# Altium integrated library Analog Devices Switches and Multiplexers Digital Crosspoint Switches.IntLib: 20 symbols (part 3 of 4)
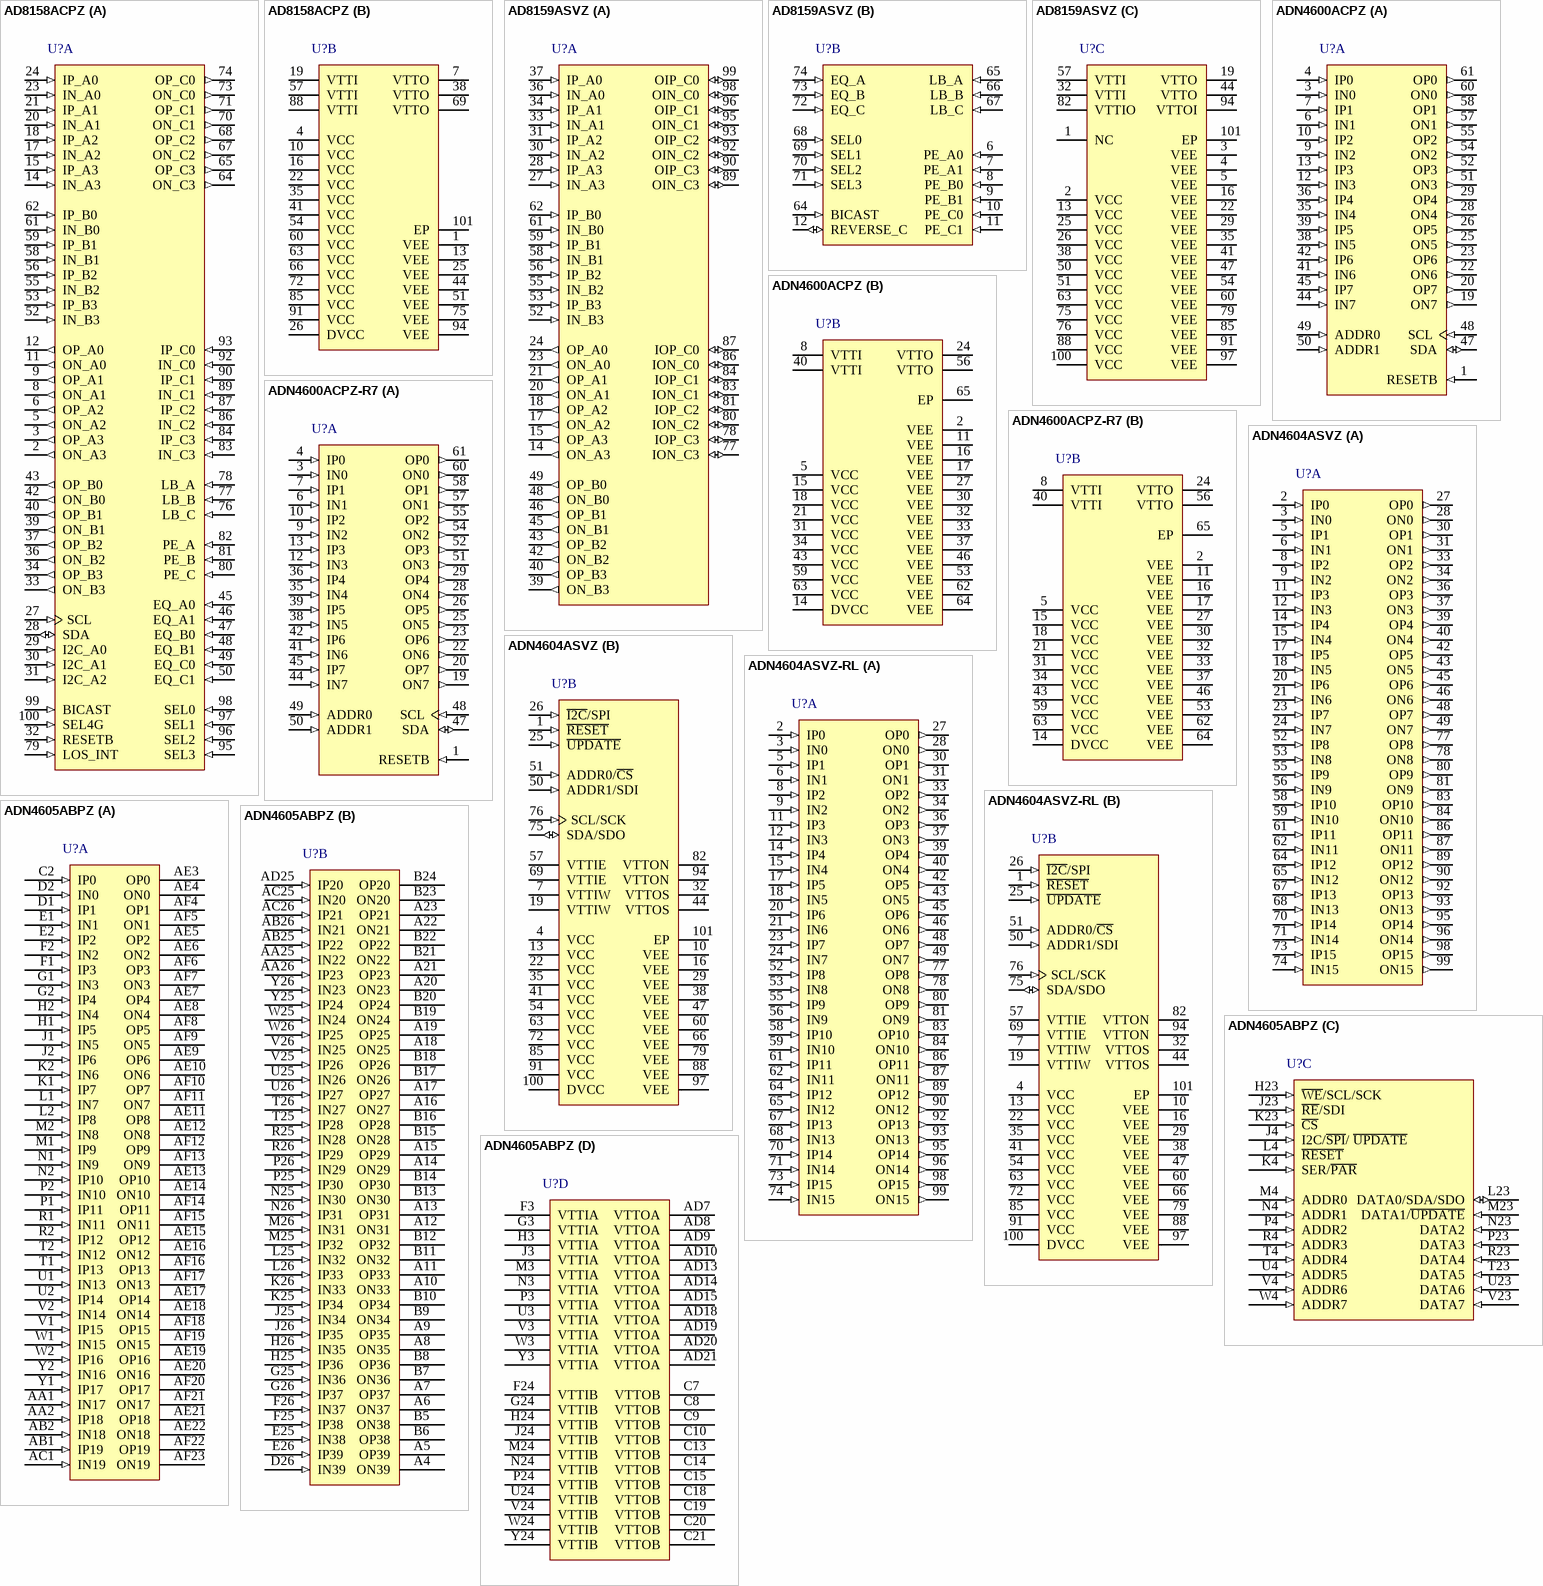
[diagram p6: symbols AD8158ACPZ to ADN4605ABPZ]

## AD8159ASVZ
designator U?
Xstream(TM) 3.2 Gbps Quad Buffer Mux / Demux, 600 ps Prop Delay, -40 to 85 degC, 100-pin QFP (SV-100-1), Tray; Manufacturer: Analog Devices; PartNumber: AD8159ASVZ; Control Interface: LVCMOS/LVTTL Parallel; Data Rate (Gbps): 3.2; Prop Delay: 600ps; Output Rise/Fall (ps): 100; Supply Current: 255mA; DatasheetVersion: Rev. B; PackageVersion: 040506-A, 04/2006; PackageReference: SV-100-1; PackageDescription: 100-Pin Thin Quad Flat Package, Body 14 x 14 mm, Pitch 0.5 mm; Supplier 1: Digi-Key; Supplier Part Number 1: AD8159ASVZ-ND; Supplier 2: Newark; Supplier Part Number 2: 59K6446; Supplier 3: Mouser; Supplier Part Number 3: 584-AD8159ASVZ; Packing: Tray; Mounting Technology: Surface Mount; Code_JEDEC: MS-026-AED-HD; ComponentLink1Description: Manufacturer URL; ComponentLink1URL: http://www.analog.com/en/index.html; ComponentLink2Description: Datasheet; ComponentLink2URL: http://www.analog.com/static/imported-files/data_sheets/AD8159.pdf; ComponentLink3Description: Package Specification; ComponentLink3URL: http://www.analog.com/static/imported-files/packages/PKG_PDF/TQFP_ED(SV)/SV_100_1.pdf
footprint ADI-SV-100-1_N (QFP, 100-Leads, Body 14x4mm, Pitch 0.5mm, Thermal Pad 6.5x6.5mm, IPC Medium Density)
footprint ADI-SV-100-1_L (QFP, 100-Leads, Body 14x4mm, Pitch 0.5mm, Thermal Pad 6.5x6.5mm, IPC High Density)
footprint ADI-SV-100-1_M (QFP, 100-Leads, Body 14x4mm, Pitch 0.5mm, Thermal Pad 6.5x6.5mm, IPC Low Density)
part A pins: 14 ON_A3 (out) "High Speed Output Complement", 15 OP_A3 (out) "High Speed Output", 17 ON_A2 (out) "High Speed Output Complement", 18 OP_A2 (out) "High Speed Output", 20 ON_A1 (out) "High Speed Output Complement", 21 OP_A1 (out) "High Speed Output", 23 ON_A0 (out) "High Speed Output Complement", 24 OP_A0 (out) "High Speed Output", 27 IN_A3 (in) "High Speed Input Complement", 28 IP_A3 (in) "High Speed Input", 30 IN_A2 (in) "High Speed Input Complement", 31 IP_A2 (in) "High Speed Input", 33 IN_A1 (in) "High Speed Input Complement", 34 IP_A1 (in) "High Speed Input", 36 IN_A0 (in) "High Speed Input Complement", 37 IP_A0 (in) "High Speed Input", 39 ON_B3 (out) "High Speed Output Complement", 40 OP_B3 (out) "High Speed Output", 42 ON_B2 (out) "High Speed Output Complement", 43 OP_B2 (out) "High Speed Output", 45 ON_B1 (out) "High Speed Output Complement", 46 OP_B1 (out) "High Speed Output", 48 ON_B0 (out) "High Speed Output Complement", 49 OP_B0 (out) "High Speed Output", 52 IN_B3 (in) "High Speed Input Complement", 53 IP_B3 (in) "High Speed Input", 55 IN_B2 (in) "High Speed Input Complement", 56 IP_B2 (in) "High Speed Input", 58 IN_B1 (in) "High Speed Input Complement", 59 IP_B1 (in) "High Speed Input", 61 IN_B0 (in) "High Speed Input Complement", 62 IP_B0 (in) "High Speed Input", 77 ION_C3 (io) "High Speed Input/Output Complement", 78 IOP_C3 (io) "High Speed Input/Output", 80 ION_C2 (io) "High Speed Input/Output Complement", 81 IOP_C2 (io) "High Speed Input/Output", 83 ION_C1 (io) "High Speed Input/Output Complement", 84 IOP_C1 (io) "High Speed Input/Output", 86 ION_C0 (io) "High Speed Input/Output Complement", 87 IOP_C0 (io) "High Speed Input/Output", 89 OIN_C3 (io) "High Speed Output/Input Complement", 90 OIP_C3 (io) "High Speed Output/Input", 92 OIN_C2 (io) "High Speed Output/Input Complement", 93 OIP_C2 (io) "High Speed Output/Input", 95 OIN_C1 (io) "High Speed Output/Input Complement", 96 OIP_C1 (io) "High Speed Output/Input", 98 OIN_C0 (io) "High Speed Output/Input Complement", 99 OIP_C0 (io) "High Speed Output/Input"
part B pins: 6 PE_A0 (in) "Pre-Emphasis Control for Port A (LSB)", 7 PE_A1 (in) "Pre-Emphasis Control for Port A (MSB)", 8 PE_B0 (in) "Pre-Emphasis Control for Port B (LSB)", 9 PE_B1 (in) "Pre-Emphasis Control for Port B (MSB)", 10 PE_C0 (in) "Pre-Emphasis Control for Port C (LSB)", 11 PE_C1 (in) "Pre-Emphasis Control for Port C (MSB)", 12 REVERSE_C (io) "Reverse Inputs and Outputs on Port C", 64 BICAST (in) "Bicast Enable", 65 LB_A (in) "Loopback Enable for Port A", 66 LB_B (in) "Loopback Enable for Port B", 67 LB_C (in) "Loopback Enable for Port C", 68 SEL0 (in) "A\/B Select for Lane 0", 69 SEL1 (in) "A\/B Select for Lane 1", 70 SEL2 (in) "A\/B Select for Lane 2", 71 SEL3 (in) "A\/B Select for Lane 3", 72 EQ_C (in) "Equalization Control for Port C", 73 EQ_B (in) "Equalization Control for Port B", 74 EQ_A (in) "Equalization Control for Port A"
part C pins: 1 NC "No Connect", 2 VCC (power) "Positive Supply", 3 VEE (power) "Negative Supply", 4 VEE (power) "Negative Supply", 5 VEE (power) "Negative Supply", 13 VCC (power) "Positive Supply", 16 VEE (power) "Negative Supply", 19 VTTO (power) "Port A and Port B Output Termination Supply", 22 VEE (power) "Negative Supply", 25 VCC (power) "Positive Supply", 26 VCC (power) "Positive Supply", 29 VEE (power) "Negative Supply", 32 VTTI (power) "Port A and Port B Input Termination Supply", 35 VEE (power) "Negative Supply", 38 VCC (power) "Positive Supply", 41 VEE (power) "Negative Supply", 44 VTTO (power) "Port A and Port B Output Termination Supply", 47 VEE (power) "Negative Supply", 50 VCC (power) "Positive Supply", 51 VCC (power) "Positive Supply", 54 VEE (power) "Negative Supply", 57 VTTI (power) "Port A and Port B Input Termination Supply", 60 VEE (power) "Negative Supply", 63 VCC (power) "Positive Supply", 75 VCC (power) "Positive Supply", 76 VCC (power) "Positive Supply", 79 VEE (power) "Negative Supply", 82 VTTIO (power) "Port C Input/Output Termination Supply", 85 VEE (power) "Negative Supply", 88 VCC (power) "Positive Supply", 91 VEE (power) "Negative Supply", 94 VTTOI (power) "Port C Output/Input Termination Supply", 97 VEE (power) "Negative Supply", 100 VCC (power) "Positive Supply", 101 EP (power) "THE EXPOSED PAD"

## ADN4600ACPZ
designator U?
Xstream(TM) 4.25 Gbps, 8 x 8, Asynchronous Crosspoint Switch, 1 ns Prop Delay, -40 to 85 degC, 64-pin QFN (CP-64-2), Tray; Manufacturer: Analog Devices; PartNumber: ADN4600ACPZ; Control Interface: I2C; Data Rate (Gbps): 4.25; Input Swing (mV p-p): 300-2000; Prop Delay: 1ns; Output Rise/Fall (ps): 75; Supply Current: 565mA; DatasheetVersion: Rev. 0; PackageReference: CP-64-2; PackageDescription: 64-Pin Lead Frame Chip Scale Package, Body 9 x 9 mm, Pitch 0.5 mm; Supplier 1: Digi-Key; Supplier Part Number 1: ADN4600ACPZ-ND; Supplier 2: Newark; Supplier Part Number 2: 02P7470; Supplier 3: Mouser; Supplier Part Number 3: 584-ADN4600ACPZ; Packing: Tray; Mounting Technology: Surface Mount; Code_JEDEC: MO-220-VMMD-4; ComponentLink1Description: Manufacturer URL; ComponentLink1URL: http://www.analog.com/en/index.html; ComponentLink2Description: Datasheet; ComponentLink2URL: http://www.analog.com/static/imported-files/data_sheets/ADN4600.pdf; ComponentLink3Description: Package Specification; ComponentLink3URL: http://www.analog.com/static/imported-files/packages/CP_64_2.pdf
footprint ADI-CP-64-2_N (QFN, 64-Leads, Body 9x9mm, Pitch 0.5mm, Thermal Pad 6x6mm, IPC Medium Density)
footprint ADI-CP-64-2_L (QFN, 64-Leads, Body 9x9mm, Pitch 0.5mm, Thermal Pad 6x6mm, IPC High Density)
footprint ADI-CP-64-2_M (QFN, 64-Leads, Body 9x9mm, Pitch 0.5mm, Thermal Pad 6x6mm, IPC Low Density)
part A pins: 1 RESETB (in) "Reset Input (Active Low)", 3 IN0 (in) "High Speed Inputs", 4 IP0 (in) "High Speed Input Complements", 6 IN1 (in) "High Speed Inputs", 7 IP1 (in) "High Speed Input Complements", 9 IN2 (in) "High Speed Inputs", 10 IP2 (in) "High Speed Input Complements", 12 IN3 (in) "High Speed Inputs", 13 IP3 (in) "High Speed Input Complements", 19 ON7 (out) "High Speed Outputs", 20 OP7 (out) "High Speed Output Complements", 22 ON6 (out) "High Speed Outputs", 23 OP6 (out) "High Speed Output Complements", 25 ON5 (out) "High Speed Outputs", 26 OP5 (out) "High Speed Output Complements", 28 ON4 (out) "High Speed Outputs", 29 OP4 (out) "High Speed Output Complements", 35 IN4 (in) "High Speed Inputs", 36 IP4 (in) "High Speed Input Complements", 38 IN5 (in) "High Speed Inputs", 39 IP5 (in) "High Speed Input Complements", 41 IN6 (in) "High Speed Inputs", 42 IP6 (in) "High Speed Input Complements", 44 IN7 (in) "High Speed Inputs", 45 IP7 (in) "High Speed Input Complements", 47 SDA (io) "I2C Control Interface Data Input/Output", 48 SCL (in) "I2C Control Interface Clock Input", 49 ADDR0 (in) "I2C Control Interface Address LSB", 50 ADDR1 (in) "I2C Control Interface Address MSB", 51 ON3 (out) "High Speed Outputs", 52 OP3 (out) "High Speed Output Complements", 54 ON2 (out) "High Speed Outputs", 55 OP2 (out) "High Speed Output Complements", 57 ON1 (out) "High Speed Outputs", 58 OP1 (out) "High Speed Output Complements", 60 ON0 (out) "High Speed Outputs", 61 OP0 (out) "High Speed Output Complements"
part B pins: 2 VEE (power) "Negative Supply", 5 VCC (power) "Positive Supply", 8 VTTI (power) "Input Termination Supply", 11 VEE (power) "Negative Supply", 14 DVCC (power) "Digital Positive Supply (3.3 V)", 15 VCC (power) "Positive Supply", 16 VEE (power) "Negative Supply", 17 VEE (power) "Negative Supply", 18 VCC (power) "Positive Supply", 21 VCC (power) "Positive Supply", 24 VTTO (power) "Output Termination Supply", 27 VEE (power) "Negative Supply", 30 VEE (power) "Negative Supply", 31 VCC (power) "Positive Supply", 32 VEE (power) "Negative Supply", 33 VEE (power) "Negative Supply", 34 VCC (power) "Positive Supply", 37 VEE (power) "Negative Supply", 40 VTTI (power) "Input Termination Supply", 43 VCC (power) "Positive Supply", 46 VEE (power) "Negative Supply", 53 VEE (power) "Negative Supply", 56 VTTO (power) "Output Termination Supply", 59 VCC (power) "Positive Supply", 62 VEE (power) "Negative Supply", 63 VCC (power) "Positive Supply", 64 VEE (power) "Negative Supply", 65 EP (power) "Connect to VEE"

## ADN4600ACPZ-R7
designator U?
Xstream(TM) 4.25 Gbps, 8 x 8, Asynchronous Crosspoint Switch, 1 ns Prop Delay, -40 to 85 degC, 64-pin QFN (CP-64-2), Reel; Manufacturer: Analog Devices; PartNumber: ADN4600ACPZ-R7; Control Interface: I2C; Data Rate (Gbps): 4.25; Input Swing (mV p-p): 300-2000; Prop Delay: 1ns; Output Rise/Fall (ps): 75; Supply Current: 565mA; DatasheetVersion: Rev. 0; PackageReference: CP-64-2; PackageDescription: 64-Pin Lead Frame Chip Scale Package, Body 9 x 9 mm, Pitch 0.5 mm; Supplier 1: Digi-Key; Supplier Part Number 1: ADN4600ACPZ-R7TR-ND; Supplier 2: Digi-Key; Supplier Part Number 2: ADN4600ACPZ-R7CT-ND; Supplier 3: Digi-Key; Supplier Part Number 3: ADN4600ACPZ-R7DKR-ND; Supplier 4: Mouser; Supplier Part Number 4: 584-ADN4600ACPZ-R7; Packing: Reel; Mounting Technology: Surface Mount; Code_JEDEC: MO-220-VMMD-4; ComponentLink1Description: Manufacturer URL; ComponentLink1URL: http://www.analog.com/en/index.html; ComponentLink2Description: Datasheet; ComponentLink2URL: http://www.analog.com/static/imported-files/data_sheets/ADN4600.pdf; ComponentLink3Description: Package Specification; ComponentLink3URL: http://www.analog.com/static/imported-files/packages/CP_64_2.pdf
footprint ADI-CP-64-2_N (QFN, 64-Leads, Body 9x9mm, Pitch 0.5mm, Thermal Pad 6x6mm, IPC Medium Density)
footprint ADI-CP-64-2_L (QFN, 64-Leads, Body 9x9mm, Pitch 0.5mm, Thermal Pad 6x6mm, IPC High Density)
footprint ADI-CP-64-2_M (QFN, 64-Leads, Body 9x9mm, Pitch 0.5mm, Thermal Pad 6x6mm, IPC Low Density)
part A pins: 1 RESETB (in) "Reset Input (Active Low)", 3 IN0 (in) "High Speed Inputs", 4 IP0 (in) "High Speed Input Complements", 6 IN1 (in) "High Speed Inputs", 7 IP1 (in) "High Speed Input Complements", 9 IN2 (in) "High Speed Inputs", 10 IP2 (in) "High Speed Input Complements", 12 IN3 (in) "High Speed Inputs", 13 IP3 (in) "High Speed Input Complements", 19 ON7 (out) "High Speed Outputs", 20 OP7 (out) "High Speed Output Complements", 22 ON6 (out) "High Speed Outputs", 23 OP6 (out) "High Speed Output Complements", 25 ON5 (out) "High Speed Outputs", 26 OP5 (out) "High Speed Output Complements", 28 ON4 (out) "High Speed Outputs", 29 OP4 (out) "High Speed Output Complements", 35 IN4 (in) "High Speed Inputs", 36 IP4 (in) "High Speed Input Complements", 38 IN5 (in) "High Speed Inputs", 39 IP5 (in) "High Speed Input Complements", 41 IN6 (in) "High Speed Inputs", 42 IP6 (in) "High Speed Input Complements", 44 IN7 (in) "High Speed Inputs", 45 IP7 (in) "High Speed Input Complements", 47 SDA (io) "I2C Control Interface Data Input/Output", 48 SCL (in) "I2C Control Interface Clock Input", 49 ADDR0 (in) "I2C Control Interface Address LSB", 50 ADDR1 (in) "I2C Control Interface Address MSB", 51 ON3 (out) "High Speed Outputs", 52 OP3 (out) "High Speed Output Complements", 54 ON2 (out) "High Speed Outputs", 55 OP2 (out) "High Speed Output Complements", 57 ON1 (out) "High Speed Outputs", 58 OP1 (out) "High Speed Output Complements", 60 ON0 (out) "High Speed Outputs", 61 OP0 (out) "High Speed Output Complements"
part B pins: 2 VEE (power) "Negative Supply", 5 VCC (power) "Positive Supply", 8 VTTI (power) "Input Termination Supply", 11 VEE (power) "Negative Supply", 14 DVCC (power) "Digital Positive Supply (3.3 V)", 15 VCC (power) "Positive Supply", 16 VEE (power) "Negative Supply", 17 VEE (power) "Negative Supply", 18 VCC (power) "Positive Supply", 21 VCC (power) "Positive Supply", 24 VTTO (power) "Output Termination Supply", 27 VEE (power) "Negative Supply", 30 VEE (power) "Negative Supply", 31 VCC (power) "Positive Supply", 32 VEE (power) "Negative Supply", 33 VEE (power) "Negative Supply", 34 VCC (power) "Positive Supply", 37 VEE (power) "Negative Supply", 40 VTTI (power) "Input Termination Supply", 43 VCC (power) "Positive Supply", 46 VEE (power) "Negative Supply", 53 VEE (power) "Negative Supply", 56 VTTO (power) "Output Termination Supply", 59 VCC (power) "Positive Supply", 62 VEE (power) "Negative Supply", 63 VCC (power) "Positive Supply", 64 VEE (power) "Negative Supply", 65 EP (power) "Connect to VEE"

## ADN4604ASVZ
designator U?
Xstream(TM) 4.25 Gbps,16 x 16, Digital Crosspoint Switch, 800 ps Prop Delay, -40 to 85 degC, 100-pin QFP (SV-100-1), Tray; Manufacturer: Analog Devices; PartNumber: ADN4604ASVZ; Control Interface: I2C, SPI; Data Rate (Gbps): 4.25; Input Swing (mV p-p): 200-2000; Prop Delay: 800ps; Output Rise/Fall (ps): 75; Supply Current: 540mA; DatasheetVersion: Rev. 0; PackageVersion: 040506-A, 04/2006; PackageReference: SV-100-1; PackageDescription: 100-Pin Thin Quad Flat Package, Body 14 x 14 mm, Pitch 0.5 mm; Supplier 1: Digi-Key; Supplier Part Number 1: ADN4604ASVZ-ND; Supplier 2: Farnell; Supplier Part Number 2: 2312775; Supplier 3: Newark; Supplier Part Number 3: 52R8069; Supplier 4: Mouser; Supplier Part Number 4: 584-ADN4604ASVZ; Packing: Tray; Mounting Technology: Surface Mount; Code_JEDEC: MS-026-AED-HD; ComponentLink1Description: Manufacturer URL; ComponentLink1URL: http://www.analog.com/en/index.html; ComponentLink2Description: Datasheet; ComponentLink2URL: http://www.analog.com/static/imported-files/data_sheets/ADN4604.pdf; ComponentLink3Description: Package Specification; ComponentLink3URL: http://www.analog.com/static/imported-files/packages/PKG_PDF/TQFP_ED(SV)/SV_100_1.pdf
footprint ADI-SV-100-1_N (QFP, 100-Leads, Body 14x4mm, Pitch 0.5mm, Thermal Pad 6.5x6.5mm, IPC Medium Density)
footprint ADI-SV-100-1_L (QFP, 100-Leads, Body 14x4mm, Pitch 0.5mm, Thermal Pad 6.5x6.5mm, IPC High Density)
footprint ADI-SV-100-1_M (QFP, 100-Leads, Body 14x4mm, Pitch 0.5mm, Thermal Pad 6.5x6.5mm, IPC Low Density)
part A pins: 2 IP0 (in) "High Speed Input.", 3 IN0 (in) "High Speed Input Complement.", 5 IP1 (in) "High Speed Input.", 6 IN1 (in) "High Speed Input Complement.", 8 IP2 (in) "High Speed Input.", 9 IN2 (in) "High Speed Input Complement.", 11 IP3 (in) "High Speed Input.", 12 IN3 (in) "High Speed Input Complement.", 14 IP4 (in) "High Speed Input.", 15 IN4 (in) "High Speed Input Complement.", 17 IP5 (in) "High Speed Input.", 18 IN5 (in) "High Speed Input Complement.", 20 IP6 (in) "High Speed Input.", 21 IN6 (in) "High Speed Input Complement.", 23 IP7 (in) "High Speed Input.", 24 IN7 (in) "High Speed Input Complement.", 27 OP0 (out) "High Speed Output.", 28 ON0 (out) "High Speed Output Complement.", 30 OP1 (out) "High Speed Output.", 31 ON1 (out) "High Speed Output Complement.", 33 OP2 (out) "High Speed Output.", 34 ON2 (out) "High Speed Output Complement.", 36 OP3 (out) "High Speed Output.", 37 ON3 (out) "High Speed Output Complement.", 39 OP4 (out) "High Speed Output.", 40 ON4 (out) "High Speed Output Complement.", 42 OP5 (out) "High Speed Output.", 43 ON5 (out) "High Speed Output Complement.", 45 OP6 (out) "High Speed Output.", 46 ON6 (out) "High Speed Output Complement.", 48 OP7 (out) "High Speed Output.", 49 ON7 (out) "High Speed Output Complement.", 52 IP8 (in) "High Speed Input.", 53 IN8 (in) "High Speed Input Complement.", 55 IP9 (in) "High Speed Input.", 56 IN9 (in) "High Speed Input Complement.", 58 IP10 (in) "High Speed Input.", 59 IN10 (in) "High Speed Input Complement.", 61 IP11 (in) "High Speed Input.", 62 IN11 (in) "High Speed Input Complement.", 64 IP12 (in) "High Speed Input.", 65 IN12 (in) "High Speed Input Complement.", 67 IP13 (in) "High Speed Input.", 68 IN13 (in) "High Speed Input Complement.", 70 IP14 (in) "High Speed Input.", 71 IN14 (in) "High Speed Input Complement.", 73 IP15 (in) "High Speed Input.", 74 IN15 (in) "High Speed Input Complement.", 77 OP8 (out) "High Speed Output.", 78 ON8 (out) "High Speed Output Complement.", 80 OP9 (out) "High Speed Output.", 81 ON9 (out) "High Speed Output Complement.", 83 OP10 (out) "High Speed Output.", 84 ON10 (out) "High Speed Output Complement.", 86 OP11 (out) "High Speed Output.", 87 ON11 (out) "High Speed Output Complement.", 89 OP12 (out) "High Speed Output.", 90 ON12 (out) "High Speed Output Complement.", 92 OP13 (out) "High Speed Output.", 93 ON13 (out) "High Speed Output Complement.", 95 OP14 (out) "High Speed Output.", 96 ON14 (out) "High Speed Output Complement.", 98 OP15 (out) "High Speed Output.", 99 ON15 (out) "High Speed Output Complement."
part B pins: 1 ~{RESET} (in) "Configuration Registers Reset, Active Low. This pin is normally pulled up to DVCC.", 4 VCC (power) "Positive Supply.", 7 VTTIW (power) "Input Termination Supply (West). These pins are normally tied to the VTTIE pins.", 10 VEE (power) "Negative Supply.", 13 VCC (power) "Positive Supply.", 16 VEE (power) "Negative Supply.", 19 VTTIW (power) "Input Termination Supply (West). These pins are normally tied to the VTTIE pins.", 22 VCC (power) "Positive Supply.", 25 ~{UPDATE} (in) "Second Rank Write Enable, Active Low. This pin is normally pulled up to DVCC.", 26 ~{I2C}/SPI (in) "I2C/SPI Control Interface Selection, I2C Active Low.", 29 VEE (power) "Negative Supply.", 32 VTTOS (power) "Output Termination Supply (South). These pins are normally tied to the VTTON pins.", 35 VCC (power) "Positive Supply.", 38 VEE (power) "Negative Supply.", 41 VCC (power) "Positive Supply.", 44 VTTOS (power) "Output Termination Supply (South). These pins are normally tied to the VTTON pins.", 47 VEE (power) "Negative Supply.", 50 ADDR1/SDI (in) "I2C Slave Address Bit 1 (MSB) or SPI Data Input.", 51 ADDR0/~{CS} (in) "I2C Slave Address Bit 0 (LSB) or SPI Chip Select (Active Low).", 54 VCC (power) "Positive Supply.", 57 VTTIE (power) "Input Termination Supply (East). These pins are normally tied to the VTTIW pins.", 60 VEE (power) "Negative Supply.", 63 VCC (power) "Positive Supply.", 66 VEE (power) "Negative Supply.", 69 VTTIE (power) "Input Termination Supply (East). These pins are normally tied to the VTTIW pins.", 72 VCC (power) "Positive Supply.", 75 SDA/SDO (io) "I2C Data or SPI Data Output.", 76 SCL/SCK (in) "I2C Clock or SPI Clock.", 79 VEE (power) "Negative Supply.", 82 VTTON (power) "Output Termination Supply (North). These pins are normally tied to the VTTOS pins.", 85 VCC (power) "Positive Supply.", 88 VEE (power) "Negative Supply.", 91 VCC (power) "Positive Supply.", 94 VTTON (power) "Output Termination Supply (North). These pins are normally tied to the VTTOS pins.", 97 VEE (power) "Negative Supply.", 100 DVCC (power) "Digital Positive Supply.", 101 EP (power) "Exposed pad, VEE."

## ADN4604ASVZ-RL
designator U?
Xstream(TM) 4.25 Gbps,16 x 16, Digital Crosspoint Switch, 800 ps Prop Delay, -40 to 85 degC, 100-pin QFP (SV-100-1), Reel; Manufacturer: Analog Devices; PartNumber: ADN4604ASVZ-RL; Control Interface: I2C, SPI; Data Rate (Gbps): 4.25; Input Swing (mV p-p): 200-2000; Prop Delay: 800ps; Output Rise/Fall (ps): 75; Supply Current: 540mA; DatasheetVersion: Rev. 0; PackageVersion: 040506-A, 04/2006; PackageReference: SV-100-1; PackageDescription: 100-Pin Thin Quad Flat Package, Body 14 x 14 mm, Pitch 0.5 mm; Supplier 1: Digi-Key; Supplier Part Number 1: ADN4604ASVZ-RL-ND; Supplier 2: Newark; Supplier Part Number 2: 52R8070; Supplier 3: Mouser; Supplier Part Number 3: 584-ADN4604ASVZ-R; Packing: Reel; Mounting Technology: Surface Mount; Code_JEDEC: MS-026-AED-HD; ComponentLink1Description: Manufacturer URL; ComponentLink1URL: http://www.analog.com/en/index.html; ComponentLink2Description: Datasheet; ComponentLink2URL: http://www.analog.com/static/imported-files/data_sheets/ADN4604.pdf; ComponentLink3Description: Package Specification; ComponentLink3URL: http://www.analog.com/static/imported-files/packages/PKG_PDF/TQFP_ED(SV)/SV_100_1.pdf
footprint ADI-SV-100-1_N (QFP, 100-Leads, Body 14x4mm, Pitch 0.5mm, Thermal Pad 6.5x6.5mm, IPC Medium Density)
footprint ADI-SV-100-1_L (QFP, 100-Leads, Body 14x4mm, Pitch 0.5mm, Thermal Pad 6.5x6.5mm, IPC High Density)
footprint ADI-SV-100-1_M (QFP, 100-Leads, Body 14x4mm, Pitch 0.5mm, Thermal Pad 6.5x6.5mm, IPC Low Density)
part A pins: 2 IP0 (in) "High Speed Input.", 3 IN0 (in) "High Speed Input Complement.", 5 IP1 (in) "High Speed Input.", 6 IN1 (in) "High Speed Input Complement.", 8 IP2 (in) "High Speed Input.", 9 IN2 (in) "High Speed Input Complement.", 11 IP3 (in) "High Speed Input.", 12 IN3 (in) "High Speed Input Complement.", 14 IP4 (in) "High Speed Input.", 15 IN4 (in) "High Speed Input Complement.", 17 IP5 (in) "High Speed Input.", 18 IN5 (in) "High Speed Input Complement.", 20 IP6 (in) "High Speed Input.", 21 IN6 (in) "High Speed Input Complement.", 23 IP7 (in) "High Speed Input.", 24 IN7 (in) "High Speed Input Complement.", 27 OP0 (out) "High Speed Output.", 28 ON0 (out) "High Speed Output Complement.", 30 OP1 (out) "High Speed Output.", 31 ON1 (out) "High Speed Output Complement.", 33 OP2 (out) "High Speed Output.", 34 ON2 (out) "High Speed Output Complement.", 36 OP3 (out) "High Speed Output.", 37 ON3 (out) "High Speed Output Complement.", 39 OP4 (out) "High Speed Output.", 40 ON4 (out) "High Speed Output Complement.", 42 OP5 (out) "High Speed Output.", 43 ON5 (out) "High Speed Output Complement.", 45 OP6 (out) "High Speed Output.", 46 ON6 (out) "High Speed Output Complement.", 48 OP7 (out) "High Speed Output.", 49 ON7 (out) "High Speed Output Complement.", 52 IP8 (in) "High Speed Input.", 53 IN8 (in) "High Speed Input Complement.", 55 IP9 (in) "High Speed Input.", 56 IN9 (in) "High Speed Input Complement.", 58 IP10 (in) "High Speed Input.", 59 IN10 (in) "High Speed Input Complement.", 61 IP11 (in) "High Speed Input.", 62 IN11 (in) "High Speed Input Complement.", 64 IP12 (in) "High Speed Input.", 65 IN12 (in) "High Speed Input Complement.", 67 IP13 (in) "High Speed Input.", 68 IN13 (in) "High Speed Input Complement.", 70 IP14 (in) "High Speed Input.", 71 IN14 (in) "High Speed Input Complement.", 73 IP15 (in) "High Speed Input.", 74 IN15 (in) "High Speed Input Complement.", 77 OP8 (out) "High Speed Output.", 78 ON8 (out) "High Speed Output Complement.", 80 OP9 (out) "High Speed Output.", 81 ON9 (out) "High Speed Output Complement.", 83 OP10 (out) "High Speed Output.", 84 ON10 (out) "High Speed Output Complement.", 86 OP11 (out) "High Speed Output.", 87 ON11 (out) "High Speed Output Complement.", 89 OP12 (out) "High Speed Output.", 90 ON12 (out) "High Speed Output Complement.", 92 OP13 (out) "High Speed Output.", 93 ON13 (out) "High Speed Output Complement.", 95 OP14 (out) "High Speed Output.", 96 ON14 (out) "High Speed Output Complement.", 98 OP15 (out) "High Speed Output.", 99 ON15 (out) "High Speed Output Complement."
part B pins: 1 ~{RESET} (in) "Configuration Registers Reset, Active Low. This pin is normally pulled up to DVCC.", 4 VCC (power) "Positive Supply.", 7 VTTIW (power) "Input Termination Supply (West). These pins are normally tied to the VTTIE pins.", 10 VEE (power) "Negative Supply.", 13 VCC (power) "Positive Supply.", 16 VEE (power) "Negative Supply.", 19 VTTIW (power) "Input Termination Supply (West). These pins are normally tied to the VTTIE pins.", 22 VCC (power) "Positive Supply.", 25 ~{UPDATE} (in) "Second Rank Write Enable, Active Low. This pin is normally pulled up to DVCC.", 26 ~{I2C}/SPI (in) "I2C/SPI Control Interface Selection, I2C Active Low.", 29 VEE (power) "Negative Supply.", 32 VTTOS (power) "Output Termination Supply (South). These pins are normally tied to the VTTON pins.", 35 VCC (power) "Positive Supply.", 38 VEE (power) "Negative Supply.", 41 VCC (power) "Positive Supply.", 44 VTTOS (power) "Output Termination Supply (South). These pins are normally tied to the VTTON pins.", 47 VEE (power) "Negative Supply.", 50 ADDR1/SDI (in) "I2C Slave Address Bit 1 (MSB) or SPI Data Input.", 51 ADDR0/~{CS} (in) "I2C Slave Address Bit 0 (LSB) or SPI Chip Select (Active Low).", 54 VCC (power) "Positive Supply.", 57 VTTIE (power) "Input Termination Supply (East). These pins are normally tied to the VTTIW pins.", 60 VEE (power) "Negative Supply.", 63 VCC (power) "Positive Supply.", 66 VEE (power) "Negative Supply.", 69 VTTIE (power) "Input Termination Supply (East). These pins are normally tied to the VTTIW pins.", 72 VCC (power) "Positive Supply.", 75 SDA/SDO (io) "I2C Data or SPI Data Output.", 76 SCL/SCK (in) "I2C Clock or SPI Clock.", 79 VEE (power) "Negative Supply.", 82 VTTON (power) "Output Termination Supply (North). These pins are normally tied to the VTTOS pins.", 85 VCC (power) "Positive Supply.", 88 VEE (power) "Negative Supply.", 91 VCC (power) "Positive Supply.", 94 VTTON (power) "Output Termination Supply (North). These pins are normally tied to the VTTOS pins.", 97 VEE (power) "Negative Supply.", 100 DVCC (power) "Digital Positive Supply.", 101 EP (power) "Exposed pad, VEE."

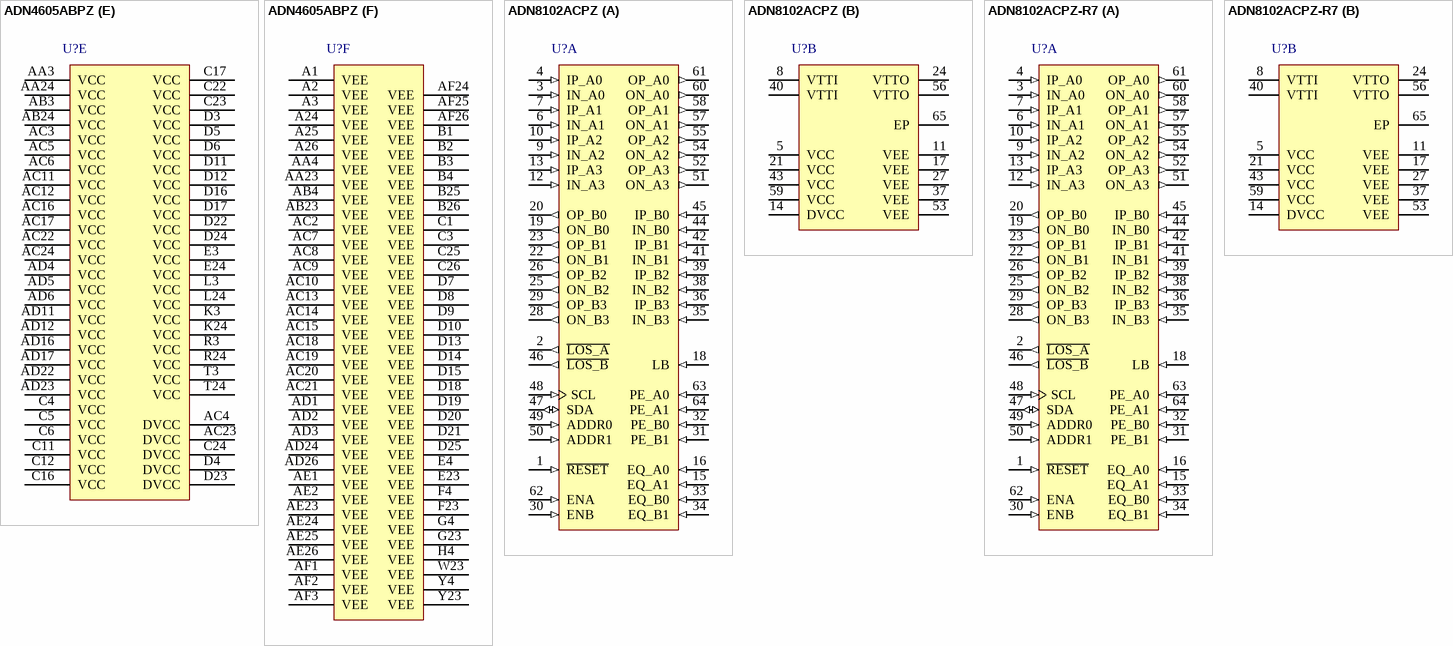
[diagram p4: symbols ADN4605ABPZ to ADN8102ACPZ-R7]

## ADN4605ABPZ
designator U?
Xstream(TM) 4.25 Gbps 40 x 40 Digital Crosspoint Switch, 920 ps Prop Delay, -40 to 85 degC, 352-pin BGA (BP-352), Tray; Manufacturer: Analog Devices; PartNumber: ADN4605ABPZ; Control Interface: I2C, Parallel, SPI; Data Rate (Gbps): 4.25; Input Swing (mV p-p): 50-2000; Output Rise/Fall (ps): 108; Supply Current: 1960mA; DatasheetVersion: Rev. A; PackageVersion: 022206-A, 11/2011; PackageReference: BP-352; PackageDescription: 352-Ball Grid Array, Body 35 x 35 mm, Pitch 1.27 mm; Supplier 1: Digi-Key; Supplier Part Number 1: ADN4605ABPZ-ND; Supplier 2: Farnell; Supplier Part Number 2: 1944980; Supplier 3: Newark; Supplier Part Number 3: 51T1959; Supplier 4: Mouser; Supplier Part Number 4: 584-ADN4605ABPZ; Packing: Tray; Mounting Technology: Surface Mount; Code_JEDEC: MO-192-BAL-2; ComponentLink1Description: Manufacturer URL; ComponentLink1URL: http://www.analog.com/en/index.html; ComponentLink2Description: Datasheet; ComponentLink2URL: http://www.analog.com/static/imported-files/data_sheets/ADN4605.pdf; ComponentLink3Description: Package Specification; ComponentLink3URL: http://www.analog.com/static/imported-files/data_sheets/ADN4605.pdf
footprint ADI-BP-352 (BGA, 352-Balls, Body 35x35mm, Pitch 1.27mm)
part A pins: AA1 IN17 (in) "High Speed Input Complement.", AA2 IP18 (in) "High Speed Input.", AB1 IP19 (in) "High Speed Input.", AB2 IN18 (in) "High Speed Input Complement.", AC1 IN19 (in) "High Speed Input Complement.", AE3 OP0 (hiz) "High Speed Output.", AE4 ON0 (hiz) "High Speed Output Complement.", AE5 OP2 (hiz) "High Speed Output.", AE6 ON2 (hiz) "High Speed Output Complement.", AE7 OP4 (hiz) "High Speed Output.", AE8 ON4 (hiz) "High Speed Output Complement.", AE9 OP6 (hiz) "High Speed Output.", AE10 ON6 (hiz) "High Speed Output Complement.", AE11 OP8 (hiz) "High Speed Output.", AE12 ON8 (hiz) "High Speed Output Complement.", AE13 OP10 (hiz) "High Speed Output.", AE14 ON10 (hiz) "High Speed Output Complement.", AE15 OP12 (hiz) "High Speed Output.", AE16 ON12 (hiz) "High Speed Output Complement.", AE17 OP14 (hiz) "High Speed Output.", AE18 ON14 (hiz) "High Speed Output Complement.", AE19 OP16 (hiz) "High Speed Output.", AE20 ON16 (hiz) "High Speed Output Complement.", AE21 OP18 (hiz) "High Speed Output.", AE22 ON18 (hiz) "High Speed Output Complement.", AF4 OP1 (hiz) "High Speed Output.", AF5 ON1 (hiz) "High Speed Output Complement.", AF6 OP3 (hiz) "High Speed Output.", AF7 ON3 (hiz) "High Speed Output Complement.", AF8 OP5 (hiz) "High Speed Output.", AF9 ON5 (hiz) "High Speed Output Complement.", AF10 OP7 (hiz) "High Speed Output.", AF11 ON7 (hiz) "High Speed Output Complement.", AF12 OP9 (hiz) "High Speed Output.", AF13 ON9 (hiz) "High Speed Output Complement.", AF14 OP11 (hiz) "High Speed Output.", AF15 ON11 (hiz) "High Speed Output Complement.", AF16 OP13 (hiz) "High Speed Output.", AF17 ON13 (hiz) "High Speed Output Complement.", AF18 OP15 (hiz) "High Speed Output.", AF19 ON15 (hiz) "High Speed Output Complement.", AF20 OP17 (hiz) "High Speed Output.", AF21 ON17 (hiz) "High Speed Output Complement.", AF22 OP19 (hiz) "High Speed Output.", AF23 ON19 (hiz) "High Speed Output Complement.", C2 IP0 (in) "High Speed Input.", D1 IP1 (in) "High Speed Input.", D2 IN0 (in) "High Speed Input Complement.", E1 IN1 (in) "High Speed Input Complement.", E2 IP2 (in) "High Speed Input.", F1 IP3 (in) "High Speed Input", F2 IN2 (in) "High Speed Input Complement.", G1 IN3 (in) "High Speed Input Complement.", G2 IP4 (in) "High Speed Input.", H1 IP5 (in) "High Speed Input.", H2 IN4 (in) "High Speed Input Complement.", J1 IN5 (in) "High Speed Input Complement.", J2 IP6 (in) "High Speed Input.", K1 IP7 (in) "High Speed Input.", K2 IN6 (in) "High Speed Input Complement.", L1 IN7 (in) "High Speed Input Complement.", L2 IP8 (in) "High Speed Input.", M1 IP9 (in) "High Speed Input.", M2 IN8 (in) "High Speed Input Complement.", N1 IN9 (in) "High Speed Input Complement.", N2 IP10 (in) "High Speed Input.", P1 IP11 (in) "High Speed Input.", P2 IN10 (in) "High Speed Input Complement.", R1 IN11 (in) "High Speed Input Complement.", R2 IP12 (in) "High Speed Input.", T1 IP13 (in) "High Speed Input.", T2 IN12 (in) "High Speed Input Complement.", U1 IN13 (in) "High Speed Input Complement.", U2 IP14 (in) "High Speed Input.", V1 IP15 (in) "High Speed Input.", V2 IN14 (in) "High Speed Input Complement.", W1 IN15 (in) "High Speed Input Complement.", W2 IP16 (in) "High Speed Input.", Y1 IP17 (in) "High Speed Input.", Y2 IN16 (in) "High Speed Input Complement."
part B pins: A4 ON39 (hiz) "High Speed Output Complement.", A5 OP39 (hiz) "High Speed Output.", A6 ON37 (hiz) "High Speed Output Complement.", A7 OP37 (hiz) "High Speed Output.", A8 ON35 (hiz) "High Speed Output Complement.", A9 OP35 (hiz) "High Speed Output.", A10 ON33 (hiz) "High Speed Output Complement.", A11 OP33 (hiz) "High Speed Output.", A12 ON31 (hiz) "High Speed Output Complement.", A13 OP31 (hiz) "High Speed Output.", A14 ON29 (hiz) "High Speed Output Complement.", A15 OP29 (hiz) "High Speed Output.", A16 ON27 (hiz) "High Speed Output Complement.", A17 OP27 (hiz) "High Speed Output.", A18 ON25 (hiz) "High Speed Output Complement.", A19 OP25 (hiz) "High Speed Output.", A20 ON23 (hiz) "High Speed Output Complement.", A21 OP23 (hiz) "High Speed Output.", A22 ON21 (hiz) "High Speed Output Complement.", A23 OP21 (hiz) "High Speed Output.", AA25 IN22 (in) "High Speed Input Complement.", AA26 IP23 (in) "High Speed Input.", AB25 IP22 (in) "High Speed Input.", AB26 IN21 (in) "High Speed Input Complement.", AC25 IN20 (in) "High Speed Input Complement.", AC26 IP21 (in) "High Speed Input.", AD25 IP20 (in) "High Speed Input.", B5 ON38 (hiz) "High Speed Output Complement.", B6 OP38 (hiz) "High Speed Output.", B7 ON36 (hiz) "High Speed Output Complement.", B8 OP36 (hiz) "High Speed Output.", B9 ON34 (hiz) "High Speed Output Complement.", B10 OP34 (hiz) "High Speed Output.", B11 ON32 (hiz) "High Speed Output Complement.", B12 OP32 (hiz) "High Speed Output.", B13 ON30 (hiz) "High Speed Output Complement.", B14 OP30 (hiz) "High Speed Output.", B15 ON28 (hiz) "High Speed Output Complement.", B16 OP28 (hiz) "High Speed Output.", B17 ON26 (hiz) "High Speed Output Complement.", B18 OP26 (hiz) "High Speed Output.", B19 ON24 (hiz) "High Speed Output Complement.", B20 OP24 (hiz) "High Speed Output.", B21 ON22 (hiz) "High Speed Output Complement.", B22 OP22 (hiz) "High Speed Output.", B23 ON20 (hiz) "High Speed Output Complement.", B24 OP20 (hiz) "High Speed Output.", D26 IN39 (in) "High Speed Input Complement.", E25 IN38 (in) "High Speed Input Complement.", E26 IP39 (in) "High Speed Input", F25 IP38 (in) "High Speed Input.", F26 IN37 (in) "High Speed Input Complement.", G25 IN36 (in) "High Speed Input Complement.", G26 IP37 (in) "High Speed Input.", H25 IP36 (in) "High Speed Input.", H26 IN35 (in) "High Speed Input Complement.", J25 IN34 (in) "High Speed Input.", J26 IP35 (in) "High Speed Input Complement.", K25 IP34 (in) "High Speed Input.", K26 IN33 (in) "High Speed Input Complement.", L25 IN32 (in) "High Speed Input Complement.", L26 IP33 (in) "High Speed Input.", M25 IP32 (in) "High Speed Input", M26 IN31 (in) "High Speed Input Complement.", N25 IN30 (in) "High Speed Input Complement.", N26 IP31 (in) "High Speed Input.", P25 IP30 (in) "High Speed Input.", P26 IN29 (in) "High Speed Input Complement.", R25 IN28 (in) "High Speed Input Complement.", R26 IP29 (in) "High Speed Input.", T25 IP28 (in) "High Speed Input.", T26 IN27 (in) "High Speed Input Complement.", U25 IN26 (in) "High Speed Input Complement.", U26 IP27 (in) "High Speed Input.", V25 IP26 (in) "High Speed Input.", V26 IN25 (in) "High Speed Input Complement.", W25 IN24 (in) "High Speed Input Complement.", W26 IP25 (in) "High Speed Input.", Y25 IP24 (in) "High Speed Input.", Y26 IN23 (in) "High Speed Input Complement."
part C pins: H23 ~{WE}/SCL/SCK (in) "Parallel control interface: First-Rank Write Strobe (W\E\) Active Low. I2C Control Interface: I2C Clock (SCL). SPI Control Interface: SPI Clock (SCK).", J4 I2C/~{SPI}/ ~{UPDATE} (in) "I2C Control Interface Selection (I2C). SPI Control Interface Selection (S\P\I\) Active Low. Parallel Control Interface (U\P\D\A\T\E\) Active Low.", J23 ~{RE}/SDI (in) "Parallel Control Interface: Read Strobe (R\E\) Active Low. SPI Control Interface: Data Input (SDI) SPI Control.", K4 SER/~{PAR} (in) "Serial Control Interface Selection (SER). Parallel Control Interface Selection (P\A\R\) Active Low.", K23 ~{CS} (in) "Chip Select Active Low.", L4 ~{RESET} (in) "Configuration Registers: Reset (Active Low). This pin is normally pulled up to DVCC.", L23 DATA0/SDA/SDO (io) "Parallel Control Interface: Register Data Bit 0 (DATA0). I2C Control Interface: Data In (SDA). SPI Control Interface: Data Out (SDO).", M4 ADDR0 (in) "Parallel Control Interface: Register Address Bit 0. I2C Control Interface: Slave Address Bit 0.", M23 DATA1/~{UPDATE} (in) "Parallel Control Interface: Register (DATA1). Data Bit 1. I2C or SPI Serial Control Interface (U\P\D\A\T\E\). Active Low.", N4 ADDR1 (in) "Parallel Control Interface: Register Address Bit 1. I2C Control Interface: Slave Address Bit 1.", N23 DATA2 (in) "Parallel Control Interface: Register Data Bit 2.", P4 ADDR2 (in) "Parallel Control Interface: Register Address Bit 2. I2C Control Interface: Slave Address Bit 2.", P23 DATA3 (in) "Parallel Control Interface: Register Data Bit 3.", R4 ADDR3 (in) "Parallel Control Interface: Register Address Bit 3. I2C Control Interface: Slave Address Bit 3.", R23 DATA4 (in) "Parallel Control Interface: Register Data Bit 4.", T4 ADDR4 (in) "Parallel Control Interface: Register Address Bit 4. I2C Control Interface: Slave Address Bit 4.", T23 DATA5 (in) "Parallel Control Interface: Register Data Bit 5.", U4 ADDR5 (in) "Parallel Control Interface: Register Address Bit 5. I2C Control Interface: Slave Address Bit 5.", U23 DATA6 (in) "Parallel Control Interface: Register Data Bit 6.", V4 ADDR6 (in) "Parallel Control Interface: Register Address Bit 6. I2C Control Interface: Slave Address Bit 6.", V23 DATA7 (in) "Parallel Control Interface: Register Data Bit 7.", W4 ADDR7 (in) "Parallel Control Interface: Register Address Bit 7. I2C Control Interface: Slave Address Bit 7."
part D pins: AD7 VTTOA (power) "Output Termination Supply (A). The VTTOA pins are normally tied to the VTTOB pins.", AD8 VTTOA (power) "Output Termination Supply (A). The VTTOA pins are normally tied to the VTTOB pins.", AD9 VTTOA (power) "Output Termination Supply (A). The VTTOA pins are normally tied to the VTTOB pins.", AD10 VTTOA (power) "Output Termination Supply (A). The VTTOA pins are normally tied to the VTTOB pins.", AD13 VTTOA (power) "Output Termination Supply (A). The VTTOA pins are normally tied to the VTTOB pins.", AD14 VTTOA (power) "Output Termination Supply (A). The VTTOA pins are normally tied to the VTTOB pins.", AD15 VTTOA (power) "Output Termination Supply (A). The VTTOA pins are normally tied to the VTTOB pins.", AD18 VTTOA (power) "Output Termination Supply (A). The VTTOA pins are normally tied to the VTTOB pins.", AD19 VTTOA (power) "Output Termination Supply (A). The VTTOA pins are normally tied to the VTTOB pins.", AD20 VTTOA (power) "Output Termination Supply (A). The VTTOA pins are normally tied to the VTTOB pins.", AD21 VTTOA (power) "Output Termination Supply (A). The VTTOA pins are normally tied to the VTTOB pins.", C7 VTTOB (power) "Output Termination Supply (B). The VTTOB pins are normally tied to the VTTOA pins.", C8 VTTOB (power) "Output Termination Supply (B). The VTTOB pins are normally tied to the VTTOA pins.", C9 VTTOB (power) "Output Termination Supply (B). The VTTOB pins are normally tied to the VTTOA pins.", C10 VTTOB (power) "Output Termination Supply (B). The VTTOB pins are normally tied to the VTTOA pins.", C13 VTTOB (power) "Output Termination Supply (B). The VTTOB pins are normally tied to the VTTOA pins.", C14 VTTOB (power) "Output Termination Supply (B). The VTTOB pins are normally tied to the VTTOA pins.", C15 VTTOB (power) "Output Termination Supply (B). The VTTOB pins are normally tied to the VTTOA pins.", C18 VTTOB (power) "Output Termination Supply (B). The VTTOB pins are normally tied to the VTTOA pins.", C19 VTTOB (power) "Output Termination Supply (B). The VTTOB pins are normally tied to the VTTOA pins.", C20 VTTOB (power) "Output Termination Supply (B). The VTTOB pins are normally tied to the VTTOA pins.", C21 VTTOB (power) "Output Termination Supply (B). The VTTOB pins are normally tied to the VTTOA pins.", F3 VTTIA (power) "Input Termination Supply (A). The VTTIA pins are normally tied to the VTTIB pins.", F24 VTTIB (power) "Input Termination Supply (B). The VTTIB pins are normally tied to the VTTIA pins.", G3 VTTIA (power) "Input Termination Supply (A). The VTTIA pins are normally tied to the VTTIB pins.", G24 VTTIB (power) "Input Termination Supply (B). The VTTIB pins are normally tied to the VTTIA pins.", H3 VTTIA (power) "Input Termination Supply (A). The VTTIA pins are normally tied to the VTTIB pins.", H24 VTTIB (power) "Input Termination Supply (B). The VTTIB pins are normally tied to the VTTIA pins.", J3 VTTIA (power) "Input Termination Supply (A). The VTTIA pins are normally tied to the VTTIB pins.", J24 VTTIB (power) "Input Termination Supply (B). The VTTIB pins are normally tied to the VTTIA pins.", M3 VTTIA (power) "Input Termination Supply (A). The VTTIA pins are normally tied to the VTTIB pins.", M24 VTTIB (power) "Input Termination Supply (B). The VTTIB pins are normally tied to the VTTIA pins.", N3 VTTIA (power) "Input Termination Supply (A). The VTTIA pins are normally tied to the VTTIB pins.", N24 VTTIB (power) "Input Termination Supply (B). The VTTIB pins are normally tied to the VTTIA pins.", P3 VTTIA (power) "Input Termination Supply (A). The VTTIA pins are normally tied to the VTTIB pins.", P24 VTTIB (power) "Input Termination Supply (B). The VTTIB pins are normally tied to the VTTIA pins.", U3 VTTIA (power) "Input Termination Supply (A). The VTTIA pins are normally tied to the VTTIB pins.", U24 VTTIB (power) "Input Termination Supply (B). The VTTIB pins are normally tied to the VTTIA pins.", V3 VTTIA (power) "Input Termination Supply (A). The VTTIA pins are normally tied to the VTTIB pins.", V24 VTTIB (power) "Input Termination Supply (B). The VTTIB pins are normally tied to the VTTIA pins.", W3 VTTIA (power) "Input Termination Supply (A). The VTTIA pins are normally tied to the VTTIB pins.", W24 VTTIB (power) "Input Termination Supply (B). The VTTIB pins are normally tied to the VTTIA pins.", Y3 VTTIA (power) "Input Termination Supply (A). The VTTIA pins are normally tied to the VTTIB pins.", Y24 VTTIB (power) "Input Termination Supply (B). The VTTOB pins are normally tied to the VTTIA pins."
part E pins: AA3 VCC (power) "Positive Supply.", AA24 VCC (power) "Positive Supply.", AB3 VCC (power) "Positive Supply.", AB24 VCC (power) "Positive Supply.", AC3 VCC (power) "Positive Supply.", AC4 DVCC (power) "Digital Positive Supply.", AC5 VCC (power) "Positive Supply.", AC6 VCC (power) "Positive Supply.", AC11 VCC (power) "Positive Supply.", AC12 VCC (power) "Positive Supply.", AC16 VCC (power) "Positive Supply.", AC17 VCC (power) "Positive Supply.", AC22 VCC (power) "Positive Supply.", AC23 DVCC (power) "Digital Positive Supply.", AC24 VCC (power) "Positive Supply.", AD4 VCC (power) "Positive Supply.", AD5 VCC (power) "Positive Supply.", AD6 VCC (power) "Positive Supply.", AD11 VCC (power) "Positive Supply.", AD12 VCC (power) "Positive Supply.", AD16 VCC (power) "Positive Supply.", AD17 VCC (power) "Positive Supply.", AD22 VCC (power) "Positive Supply.", AD23 VCC (power) "Positive Supply.", C4 VCC (power) "Positive Supply.", C5 VCC (power) "Positive Supply.", C6 VCC (power) "Positive Supply.", C11 VCC (power) "Positive Supply.", C12 VCC (power) "Positive Supply.", C16 VCC (power) "Positive Supply.", C17 VCC (power) "Positive Supply.", C22 VCC (power) "Positive Supply.", C23 VCC (power) "Positive Supply.", C24 DVCC (power) "Digital Positive Supply.", D3 VCC (power) "Positive Supply.", D4 DVCC (power) "Digital Positive Supply.", D5 VCC (power) "Positive Supply.", D6 VCC (power) "Positive Supply.", D11 VCC (power) "Positive Supply.", D12 VCC (power) "Positive Supply.", D16 VCC (power) "Positive Supply.", D17 VCC (power) "Positive Supply.", D22 VCC (power) "Positive Supply.", D23 DVCC (power) "Digital Positive Supply.", D24 VCC (power) "Positive Supply.", E3 VCC (power) "Positive Supply.", E24 VCC (power) "Positive Supply.", K3 VCC (power) "Power Supply.", K24 VCC (power) "Positive Supply.", L3 VCC (power) "Positive Supply.", L24 VCC (power) "Positive Supply.", R3 VCC (power) "Positive Supply.", R24 VCC (power) "Positive Supply.", T3 VCC (power) "Positive Supply.", T24 VCC (power) "Positive Supply."
part F pins: A1 VEE (power) "Negative Supply.", A2 VEE (power) "Negative Supply.", A3 VEE (power) "Negative Supply.", A24 VEE (power) "Negative Supply.", A25 VEE (power) "Negative Supply.", A26 VEE (power) "Negative Supply.", AA4 VEE (power) "Negative Supply.", AA23 VEE (power) "Negative Supply.", AB4 VEE (power) "Negative Supply.", AB23 VEE (power) "Negative Supply.", AC2 VEE (power) "Negative Supply.", AC7 VEE (power) "Negative Supply.", AC8 VEE (power) "Negative Supply.", AC9 VEE (power) "Negative Supply.", AC10 VEE (power) "Negative Supply.", AC13 VEE (power) "Negative Supply.", AC14 VEE (power) "Negative Supply.", AC15 VEE (power) "Negative Supply.", AC18 VEE (power) "Negative Supply.", AC19 VEE (power) "Negative Supply.", AC20 VEE (power) "Negative Supply.", AC21 VEE (power) "Negative Supply.", AD1 VEE (power) "Negative Supply.", AD2 VEE (power) "Negative Supply.", AD3 VEE (power) "Negative Supply.", AD24 VEE (power) "Negative Supply.", AD26 VEE (power) "Negative Supply.", AE1 VEE (power) "Negative Supply.", AE2 VEE (power) "Negative Supply.", AE23 VEE (power) "Negative Supply.", AE24 VEE (power) "Negative Supply.", AE25 VEE (power) "Negative Supply.", AE26 VEE (power) "Negative Supply.", AF1 VEE (power) "Negative Supply.", AF2 VEE (power) "Negative Supply.", AF3 VEE (power) "Negative Supply.", AF24 VEE (power) "Negative Supply.", AF25 VEE (power) "Negative Supply.", AF26 VEE (power) "Negative Supply.", B1 VEE (power) "Negative Supply.", B2 VEE (power) "Negative Supply.", B3 VEE (power) "Negative Supply.", B4 VEE (power) "Negative Supply.", B25 VEE (power) "Negative Supply.", B26 VEE (power) "Negative Supply.", C1 VEE (power) "Negative Supply.", C3 VEE (power) "Negative Supply.", C25 VEE (power) "Negative Supply.", C26 VEE (power) "Negative Supply.", D7 VEE (power) "Negative Supply.", D8 VEE (power) "Negative Supply.", D9 VEE (power) "Negative Supply.", D10 VEE (power) "Negative Supply.", D13 VEE (power) "Negative Supply.", D14 VEE (power) "Negative Supply.", D15 VEE (power) "Negative Supply.", D18 VEE (power) "Negative Supply.", D19 VEE (power) "Negative Supply.", D20 VEE (power) "Negative Supply.", D21 VEE (power) "Negative Supply.", D25 VEE (power) "Negative Supply.", E4 VEE (power) "Negative Supply.", E23 VEE (power) "Negative Supply.", F4 VEE (power) "Negative Supply.", F23 VEE (power) "Negative Supply.", G4 VEE (power) "Negative Supply.", G23 VEE (power) "Negative Supply.", H4 VEE (power) "Negative Supply.", W23 VEE (power) "Negative Supply.", Y4 VEE (power) "Negative Supply.", Y23 VEE (power) "Negative Supply."

## ADN8102ACPZ
designator U?
Xstream(TM) 3.75 Gbps Quad Bidirectional CX4 Equalizer, 1 ns Prop Delay, -40 to 85 degC, 64-pin QFN (CP-64-2), Tray; Manufacturer: Analog Devices; PartNumber: ADN8102ACPZ; Control Interface: I2C; Data Rate (Gbps): 3.75; Input Swing (mV p-p): 300-2000; Prop Delay: 1ns; Output Rise/Fall (ps): 75; Supply Current: 565mA; DatasheetVersion: Rev. B; PackageReference: CP-64-2; PackageDescription: 64-Pin Lead Frame Chip Scale Package, Body 9 x 9 mm, Pitch 0.5 mm; Supplier 1: Digi-Key; Supplier Part Number 1: ADN8102ACPZ-ND; Supplier 2: Mouser; Supplier Part Number 2: 584-ADN8102ACPZ; Packing: Tray; Mounting Technology: Surface Mount; Code_JEDEC: MO-220-VMMD-4; ComponentLink1Description: Manufacturer URL; ComponentLink1URL: http://www.analog.com/en/index.html; ComponentLink2Description: Datasheet; ComponentLink2URL: http://www.analog.com/static/imported-files/data_sheets/ADN8102.pdf; ComponentLink3Description: Package Specification; ComponentLink3URL: http://www.analog.com/static/imported-files/packages/CP_64_2.pdf
footprint ADI-CP-64-2_N (QFN, 64-Leads, Body 9x9mm, Pitch 0.5mm, Thermal Pad 6x6mm, IPC Medium Density)
footprint ADI-CP-64-2_L (QFN, 64-Leads, Body 9x9mm, Pitch 0.5mm, Thermal Pad 6x6mm, IPC High Density)
footprint ADI-CP-64-2_M (QFN, 64-Leads, Body 9x9mm, Pitch 0.5mm, Thermal Pad 6x6mm, IPC Low Density)
part A pins: 1 ~{RESET} (in) "Reset Input, Active Low", 2 ~{LOS_A} (out) "Port A Loss of Signal Status, Active Low", 3 IN_A0 (in) "High Speed Input Complement", 4 IP_A0 (in) "High Speed Input", 6 IN_A1 (in) "High Speed Input Complement", 7 IP_A1 (in) "High Speed Input", 9 IN_A2 (in) "High Speed Input Complement", 10 IP_A2 (in) "High Speed Input", 12 IN_A3 (in) "High Speed Input Complement", 13 IP_A3 (in) "High Speed Input", 15 EQ_A1 (in) "Port A Input Equalization MSB", 16 EQ_A0 (in) "Port A Input Equalization LSB", 18 LB (in) "Loopback Control", 19 ON_B0 (out) "High Speed Output Complement", 20 OP_B0 (out) "High Speed Output", 22 ON_B1 (out) "High Speed Output Complement", 23 OP_B1 (out) "High Speed Output", 25 ON_B2 (out) "High Speed Output Complement", 26 OP_B2 (out) "High Speed Output", 28 ON_B3 (out) "High Speed Output Complement", 29 OP_B3 (out) "High Speed Output", 30 ENB (in) "Port B Enable", 31 PE_B1 (in) "Port B Output Pre-Emphasis MSB", 32 PE_B0 (in) "Port B Output Pre-Emphasis LSB", 33 EQ_B0 (in) "Port B Input Equalization LSB", 34 EQ_B1 (in) "Port B Input Equalization MSB", 35 IN_B3 (in) "High Speed Input Complement", 36 IP_B3 (in) "High Speed Input", 38 IN_B2 (in) "High Speed Input Complement", 39 IP_B2 (in) "High Speed Input", 41 IN_B1 (in) "High Speed Input Complement", 42 IP_B1 (in) "High Speed Input", 44 IN_B0 (in) "High Speed Input Complement", 45 IP_B0 (in) "High Speed Input", 46 ~{LOS_B} (out) "Port B Loss of Signal Status, Active Low", 47 SDA (io) "I2C Control Interface Data Input/Output", 48 SCL (in) "I2C Control Interface Clock Input", 49 ADDR0 (in) "I2C Control Interface Address LSB", 50 ADDR1 (in) "I2C Control Interface Address MSB", 51 ON_A3 (out) "High Speed Output Complement", 52 OP_A3 (out) "High Speed Output", 54 ON_A2 (out) "High Speed Output Complement", 55 OP_A2 (out) "High Speed Output", 57 ON_A1 (out) "High Speed Output Complement", 58 OP_A1 (out) "High Speed Output", 60 ON_A0 (out) "High Speed Output Complement", 61 OP_A0 (out) "High Speed Output", 62 ENA (in) "Port A Enable", 63 PE_A0 (in) "Port A Output Pre-Emphasis LSB", 64 PE_A1 (in) "Port A Output Pre-Emphasis MSB"
part B pins: 5 VCC (power) "Positive Supply", 8 VTTI (power) "Input Termination Supply", 11 VEE (power) "Negative Supply", 14 DVCC (power) "Digital Power Supply", 17 VEE (power) "Negative Supply", 21 VCC (power) "Positive Supply", 24 VTTO (power) "Output Termination Supply", 27 VEE (power) "Negative Supply", 37 VEE (power) "Negative Supply", 40 VTTI (power) "Input Termination Supply", 43 VCC (power) "Positive Supply", 53 VEE (power) "Negative Supply", 56 VTTO (power) "Output Termination Supply", 59 VCC (power) "Positive Supply", 65 EP (power) "EPAD Must Be Connected to VEE"